# EAGLE library part PCM1715U (library burr-brown)
Dual Voltage Output CMOS Delta-Sigma DAC
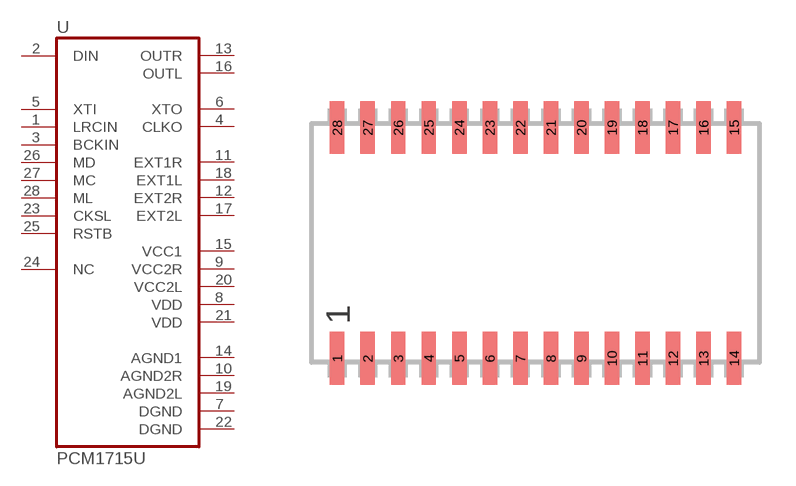
[diagram p99: symbol with the pads of SOJ28-4; footprint SOJ28-4]

Designator prefix U

## PCM1715U  [SOJ28-4]
1  LRCIN  in
2  DIN  in
3  BCKIN  in
4  CLKO  out
5  XTI  in
6  XTO  out
7  DGND  pwr
8  VDD  pwr
9  VCC2R  pwr
10  AGND2R  pwr
11  EXT1R  out
12  EXT2R  out
13  OUTR  out
14  AGND1  pwr
15  VCC1  pwr
16  OUTL  out
17  EXT2L  out
18  EXT1L  out
19  AGND2L  pwr
20  VCC2L  pwr
21  VDD  pwr
22  DGND  pwr
23  CKSL  in
24  NC  nc
25  RSTB  in
26  MD  in
27  MC  in
28  ML  in

## Footprint SOJ28-4 (pad centres in mm)
SMALL OUTLINE J LEADS body 10.12 mm
smd 0.6 x 2.2: 1 -8.255,-4.8; 2 -6.985,-4.8; 3 -5.715,-4.8; 4 -4.445,-4.8; 5 -3.175,-4.8; 6 -1.905,-4.8; 7 -0.635,-4.8; 8 0.635,-4.8; 9 1.905,-4.8; 10 3.175,-4.8; 11 4.445,-4.8; 12 5.715,-4.8; 13 6.985,-4.8; 14 8.255,-4.8; 15 8.255,4.8; 16 6.985,4.8; 17 5.715,4.8; 18 4.445,4.8; 19 3.175,4.8; 20 1.905,4.8; 21 0.635,4.8; 22 -0.635,4.8; 23 -1.905,4.8; 24 -3.175,4.8; 25 -4.445,4.8; 26 -5.715,4.8; 27 -6.985,4.8; 28 -8.255,4.8